# Altium footprint library Conn_Tianli_T-800.PcbLib: 1 footprints
Each footprint in its own frame and in the unit in brackets; x right, y up, seen from the top. Pads: shape width x height; smd on the part's side, far side on the other; paste and mask are expansions set on the pad; w line width, h text height; cw(c..) or ccw(c..) is an arc to the next point about the centre after c.
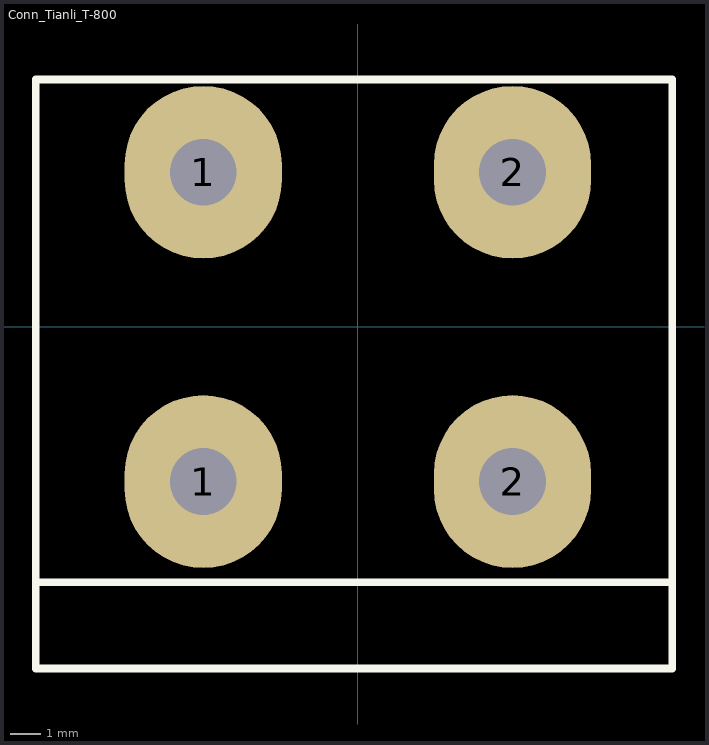
[diagram p0: the footprint, top view; thin cyan lines are the x and y axes]

## Conn_Tianli_T-800 [mm]
pads (4):
  oval 5.08x5.588 hole 2.159: 1(-5,-5) 1(-5,5) 2(5,-5) 2(5,5)
Top Overlay:
  lines w0.254: -10.414,8.001 10.16,8.001 ; -10.414,8.001 -10.414,-11.049 10.16,-11.049 10.16,8.001 ; -10.414,8.001 10.16,8.001 ; -10.414,8.001 -10.414,-8.255 10.16,-8.255 10.16,8.001
Bottom Overlay:
  lines w0.254: 0,8.001 0.125,-11.049 ; -10.414,-11.049 10.16,-11.049 10.16,8.001 -10.414,8.001 -10.414,-11.049
3D body "TIANLI TL-800.STEP": height 30.75, standoff -4.7, extent -10.25,-11.298 10.25,7.552